# EAGLE library part LM2687_DGK_8 (library SensorCape)
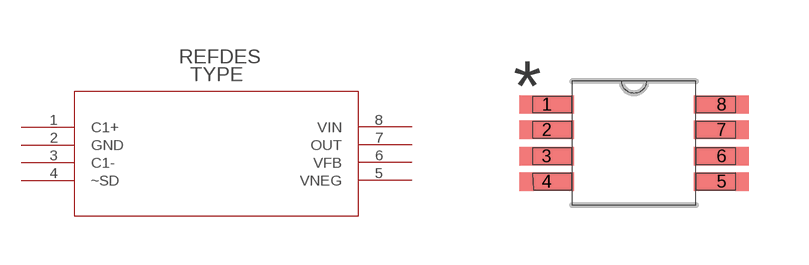
[diagram p2: symbol with the pads of MUA08A; footprint MUA08A]

Designator prefix U

## LM2687_DGK_8  [MUA08A]
1  C1+  pas
2  GND  pas
3  C1-  pas
4  ~SD  pas
5  VNEG  pas
6  VFB  pas
7  OUT  pas
8  VIN  pas

## Footprint MUA08A (pad centres in mm)
smd 1.372 x 0.457: 1 -2.184,0.965; 2 -2.184,0.33; 3 -2.184,-0.33; 4 -2.184,-0.965; 5 2.184,-0.965; 6 2.184,-0.33; 7 2.184,0.33; 8 2.184,0.965